# EAGLE library part MCP3004 (library lib)
The Microchip Technology Inc. MCP3004/3008 devices are successive approximation 10-bit Analogto-Digital (A/D) converters with on-board sample and hold circuitry. The MCP3004 is programmable to provide two pseudo-differential input pairs or four single-ended inputs. The MCP3008 is programmable to provide four pseudo-differential input pairs or eight single-ended inputs. Differential Nonlinearity (DNL) and Integral Nonlinearity (INL) are specified at ±1 LSB. Communication with the devices is accomplished using a simple serial interface compatible with the SPI protocol. The devices are capable of conversion rates of up to 200 ksps. The MCP3004/3008 devices operate over a broad voltage range (2.7V - 5.5V). Low-current design permits operation with typical standby currents of only 5 nA and typical active currents of 320 µA. The MCP3004 is offered in 14-pin PDIP, 150 mil SOIC and TSSOP packages, while the MCP3008 is offered in 16-pin PDIP and SOIC packages. Features • 10-bit resolution • ± 1 LSB max DNL • ± 1 LSB max INL • 4 (MCP3004) or 8 (MCP3008) input channels • Analog inputs programmable as single-ended or pseudo-differential pairs • On-chip sample and hold • SPI serial interface (modes 0,0 and 1,1) • Single supply operation: 2.7V - 5.5V • 200 ksps max. sampling rate at VDD=5V • 75 ksps max. sampling rate at VDD=2.7V • Low power CMOS technology • 5 nA typical standby current, 2 µA max. • 500 µA max. active current at 5V • Industrial temp range: -40°C to +85°C • Available in PDIP, SOIC and TSSOP packages
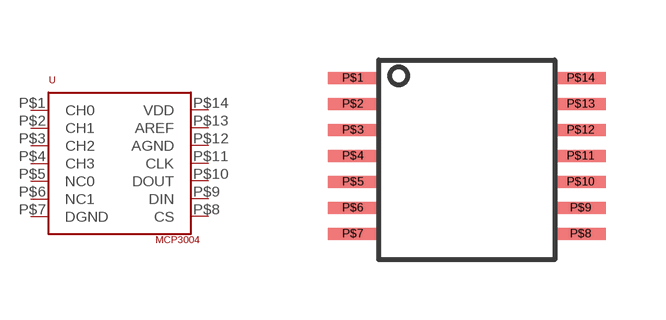
[diagram p5: symbol with the pads of TSSOP14_4MM4; footprint TSSOP14_4MM4]

Designator prefix -

## MCP3004  [TSSOP14_4MM4]
P$1  CH0
P$2  CH1
P$3  CH2
P$4  CH3
P$5  NC0  nc
P$6  NC1  nc
P$7  DGND
P$8  CS
P$9  DIN
P$10  DOUT
P$11  CLK
P$12  AGND
P$13  AREF
P$14  VDD

## Footprint TSSOP14_4MM4 (pad centres in mm)
smd 1.25 x 0.3: P$1 -0.65,4.55; P$2 -0.65,3.9; P$3 -0.65,3.25; P$4 -0.65,2.6; P$5 -0.65,1.95; P$6 -0.65,1.3; P$7 -0.65,0.65; P$8 5.05,0.65; P$9 5.05,1.3; P$10 5.05,1.95; P$11 5.05,2.6; P$12 5.05,3.25; P$13 5.05,3.9; P$14 5.05,4.55